# EAGLE library part DRV882X (library Pololu)
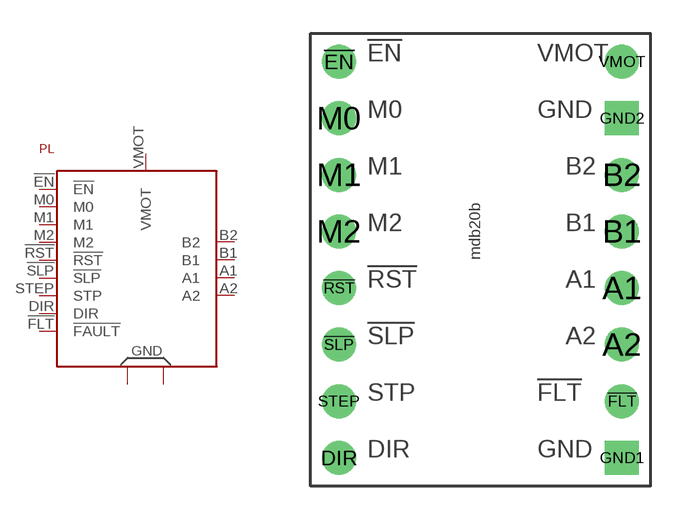
[diagram p2: symbol with the pads of MD20B; footprint MD20B]

Designator prefix PL

## DRV882X  [MD20B]
!EN  !EN
!FLT  !FAULT
!RST  !RST
!SLP  !SLP
A1  A1
A2  A2
B1  B1
B2  B2
DIR  DIR
GND1  GND1
GND2  GND2
M0  M0
M1  M1
M2  M2
STEP  STP
VMOT  VMOT

## Footprint MD20B (pad centres in mm)
drill 1.016: !EN -6.35,8.89; !FLT 6.35,-6.35; !RST -6.35,-1.27; !SLP -6.35,-3.81; A1 6.35,-1.27; A2 6.35,-3.81; B1 6.35,1.27; B2 6.35,3.81; DIR -6.35,-8.89; M0 -6.35,6.35; M1 -6.35,3.81; M2 -6.35,1.27; STEP -6.35,-6.35; VMOT 6.35,8.89
drill 1.016 square: GND1 6.35,-8.89; GND2 6.35,6.35